# Altium footprint library CAPC0603X33L15L.PcbLib: 1 footprints
Each footprint in its own frame and in the unit in brackets; x right, y up, seen from the top. Pads: shape width x height; smd on the part's side, far side on the other; paste and mask are expansions set on the pad; w line width, h text height; cw(c..) or ccw(c..) is an arc to the next point about the centre after c.
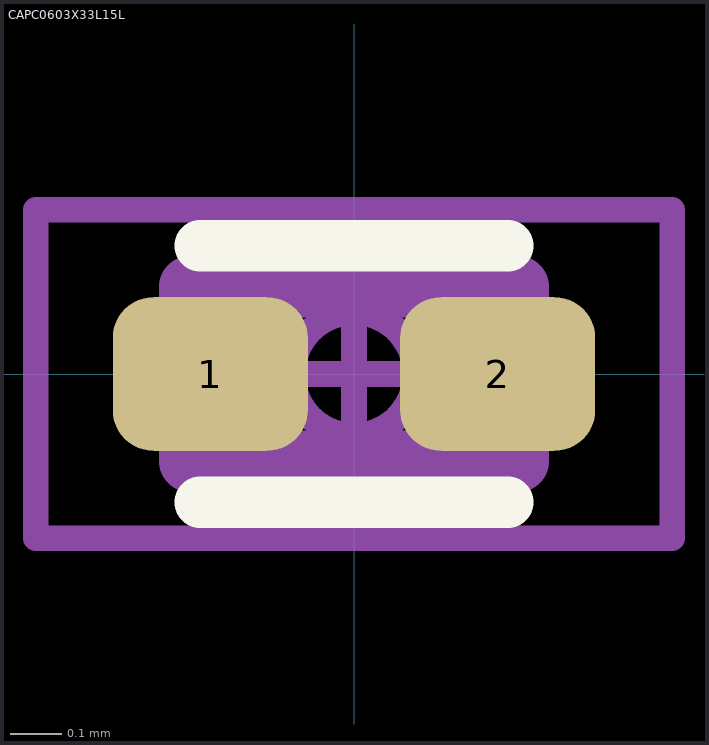
[diagram p0: the footprint, top view; thin cyan lines are the x and y axes]

## CAPC0603X33L15L [mm] "Capacitor, Chip; 0.60 mm L X 0.30 mm W X 0.33 mm H body"
height 0.33
pads (2):
  rrect53% 0.38x0.3 smd mask+0.05: 1(-0.28,0) 2(0.28,0)
Top Overlay:
  lines w0.1: -0.3,-0.25 0.3,-0.25 ; -0.3,0.25 0.3,0.25
Fab - Detail1, HDI1:
  lines w0.12: -0.32,-0.17 -0.32,0.17 0.32,0.17 0.32,-0.17 -0.32,-0.17
Courtyards/Models - Top:
  circle w0.05: c0,0 r0.12
  lines w0.05: -0.16,0 0.16,0 ; 0,-0.16 0,0.16 ; -0.62,-0.32 -0.62,0.32 0.62,0.32 0.62,-0.32 -0.62,-0.32